# EAGLE library part BADGE64 (library MiniBadge)
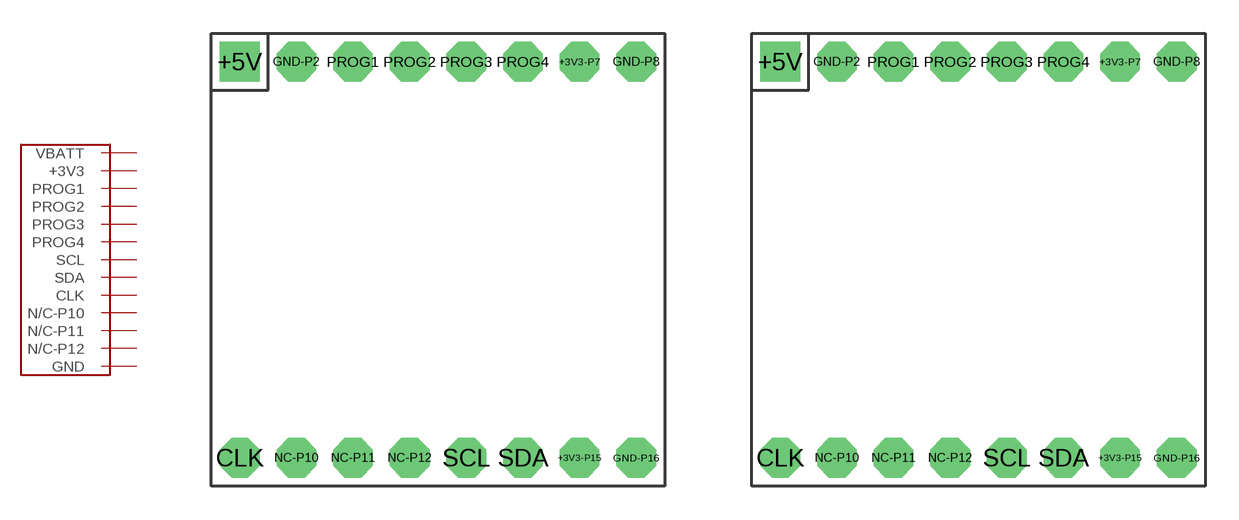
[diagram p0: symbol with the pads of BADGE64-FOOTPRINT; footprints BADGE64-FOOTPRINT, BADGE64-MINIBADGE]

Designator prefix -

## BADGE64FOOTPRINT  [BADGE64-FOOTPRINT]
+3V3-P7  +3V3  pwr
+3V3-P15  +3V3  pwr
+5V  VBATT  pwr
CLK  CLK  in
GND-P2  GND
GND-P8  GND
GND-P16  GND
NC-P10  N/C-P10  nc
NC-P11  N/C-P11  nc
NC-P12  N/C-P12  nc
PROG1  PROG1
PROG2  PROG2
PROG3  PROG3
PROG4  PROG4
SCL  SCL
SDA  SDA

## BADGE64EXAMPLE  [BADGE64-MINIBADGE]
Pads as for BADGE64-FOOTPRINT

## BADGE64FOOTPRINT-SHINY  [BADGE64-FOOTPRINT-SHINY]
Pads as for BADGE64-FOOTPRINT

## Footprint BADGE64-FOOTPRINT (pad centres in mm)
drill 1.016 pad 1.778 octagon: +3V3-P7 15.24,0; +3V3-P15 15.24,-17.78; CLK 0,-17.78; GND-P2 2.54,0; GND-P8 17.78,0; GND-P16 17.78,-17.78; NC-P10 2.54,-17.78; NC-P11 5.08,-17.78; NC-P12 7.62,-17.78; PROG1 5.08,0; PROG2 7.62,0; PROG3 10.16,0; PROG4 12.7,0; SCL 10.16,-17.78; SDA 12.7,-17.78
drill 1.016 pad 1.778 square: +5V 0,0

## Footprint BADGE64-MINIBADGE (pad centres in mm)
drill 1.016 pad 1.778 octagon: +3V3-P7 16.51,19.05; +3V3-P15 16.51,1.27; CLK 1.27,1.27; GND-P2 3.81,19.05; GND-P8 19.05,19.05; GND-P16 19.05,1.27; NC-P10 3.81,1.27; NC-P11 6.35,1.27; NC-P12 8.89,1.27; PROG1 6.35,19.05; PROG2 8.89,19.05; PROG3 11.43,19.05; PROG4 13.97,19.05; SCL 11.43,1.27; SDA 13.97,1.27
drill 1.016 pad 1.778 square: +5V 1.27,19.05

## Footprint BADGE64-FOOTPRINT-SHINY (pad centres in mm)
drill 1.016 pad 1.778 octagon: +3V3-P7 15.24,0; +3V3-P15 15.24,-17.78; CLK 0,-17.78; GND-P2 2.54,0; GND-P8 17.78,0; GND-P16 17.78,-17.78; NC-P10 2.54,-17.78; NC-P11 5.08,-17.78; NC-P12 7.62,-17.78; PROG1 5.08,0; PROG2 7.62,0; PROG3 10.16,0; PROG4 12.7,0; SCL 10.16,-17.78; SDA 12.7,-17.78
drill 1.016 pad 1.778 square: +5V 0,0